# Altium footprint library TEA10505E.PcbLib: 1 footprints
Each footprint in its own frame and in the unit in brackets; x right, y up, seen from the top. Pads: shape width x height; smd on the part's side, far side on the other; paste and mask are expansions set on the pad; w line width, h text height; cw(c..) or ccw(c..) is an arc to the next point about the centre after c.
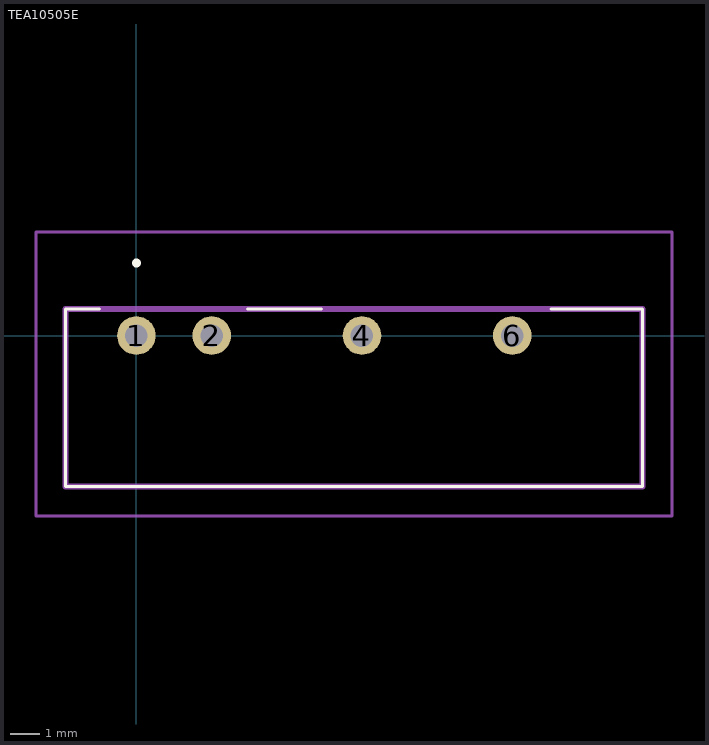
[diagram p0: the footprint, top view; thin cyan lines are the x and y axes]

## TEA10505E [mm]
pads (4):
  round 1.303 hole 0.76: 1(0,0) 2(2.54,0) 4(7.62,0) 6(12.7,0)
Top Overlay:
  lines w0.1: -2.4,-5.1 17.1,-5.1 ; -2.4,-5.1 17.1,-5.1 ; -2.4,-5.1 -2.4,0.9 ; -2.4,-5.1 -2.4,0.9 ; -2.4,0.9 -1.25,0.9 -2.4,0.9 ; 17.1,-5.1 17.1,0.9 ; 17.1,-5.1 17.1,0.9 ; 17.1,0.9 14,0.9 17.1,0.9 ; 3.75,0.9 6.25,0.9 3.75,0.9
  lines w0.2: 0,2.4 cw(c0,2.45) 0,2.5 ; 0,2.4 ccw(c0,2.45) 0,2.5 ; 0,2.4 cw(c0,2.45) 0,2.5
M5 Assembly Top (Mech13):
  lines w0.2: -2.4,-5.1 -2.4,0.9 17.1,0.9 17.1,-5.1 -2.4,-5.1
Mechanical 15:
  lines w0.1: -3.4,-6.1 -3.4,3.5 18.1,3.5 18.1,-6.1 -3.4,-6.1
3D body "TEA1-0505E.stp": height 10.1, standoff -5, extent -2.4,-5.1 17.1,0.9